# Altium footprint library 1663969.PcbLib: 1 footprints
Each footprint in its own frame and in the unit in brackets; x right, y up, seen from the top. Pads: shape width x height; smd on the part's side, far side on the other; paste and mask are expansions set on the pad; w line width, h text height; cw(c..) or ccw(c..) is an arc to the next point about the centre after c.
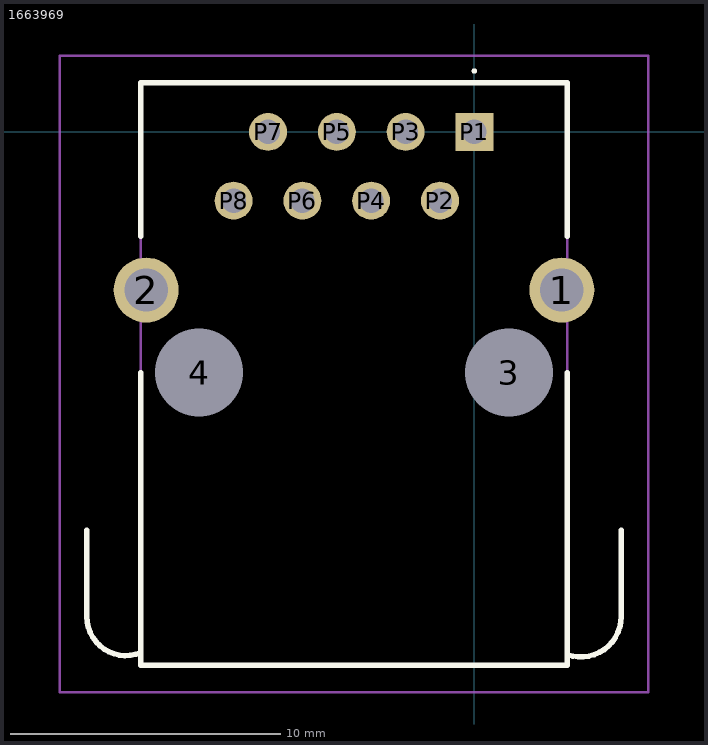
[diagram p0: the footprint, top view; thin cyan lines are the x and y axes]

## 1663969 [mm]
pads (12):
  round 2.4 hole 1.6: 1(3.23,-5.84) 2(-12.12,-5.84)
  round 1.625 hole 3.25 unplated: 3(1.27,-8.89) 4(-10.16,-8.89)
  rect 1.4x1.4 hole 0.9: P1(0,0)
  round 1.4 hole 0.9: P2(-1.27,-2.54) P3(-2.54,0) P4(-3.81,-2.54) P5(-5.08,0) P6(-6.35,-2.54) P7(-7.62,0) P8(-8.89,-2.54)
Top Overlay:
  lines w0.1: 0,2.2 cw(c0,2.25) 0,2.3 ; 0,2.2 0,2.2 ; 0,2.2 ccw(c0,2.25) 0,2.3 ; 0,2.3 0,2.3
  lines w0.2: -14.31,-14.7 -14.31,-17.9 ccw(c-12.871,-17.9) -12.319,-19.23 ; -12.32,-8.89 -12.32,-19.69 3.43,-19.69 3.43,-8.89 ; -12.32,-3.86 -12.32,1.81 3.43,1.81 3.43,-3.86 ; 3.431,-19.301 ccw(c3.932,-17.9) 5.42,-17.9 5.42,-14.7 ; -12.32,-19.23 -12.32,-19.23 ; 3.43,-19.3 3.43,-19.3
Mechanical 15:
  lines w0.1: -14.31,-14.7 -14.31,-17.9 ccw(c-12.871,-17.9) -12.319,-19.23 ; 3.431,-19.301 ccw(c3.932,-17.9) 5.42,-17.9 5.42,-14.7 ; -12.32,-19.69 3.43,-19.69 3.43,1.81 -12.32,1.81 -12.32,-19.69 ; -12.32,-19.23 -12.32,-19.23 ; 3.43,-19.3 3.43,-19.3
Mechanical 20:
  lines w0.1: -15.31,-20.69 6.42,-20.69 6.42,2.81 -15.31,2.81 -15.31,-20.69